# Altium integrated library TI Power Management Step-Up Regulator.IntLib: 226 symbols (part 7 of 11)
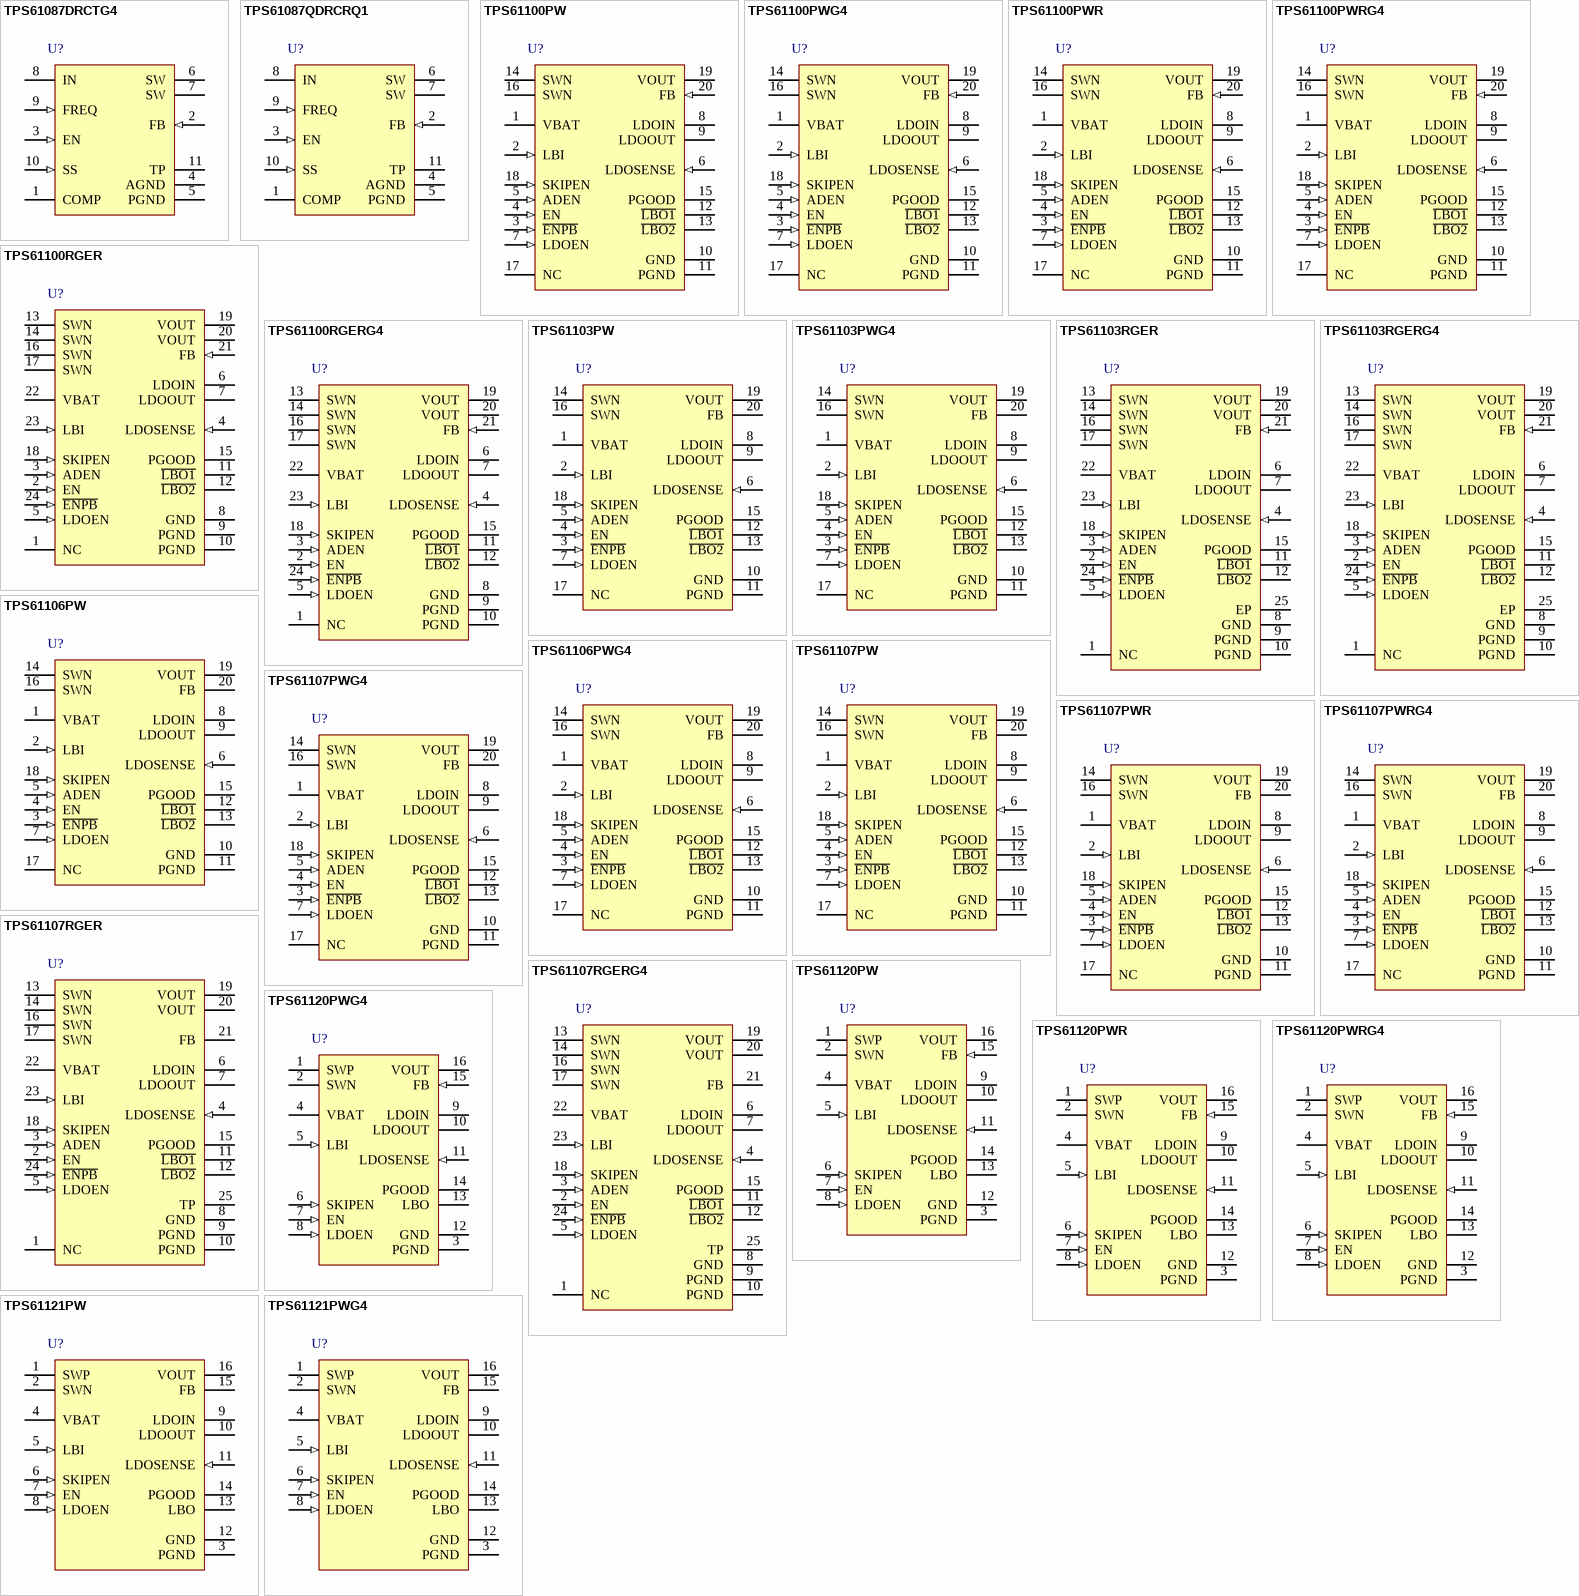
[diagram p12: symbols TPS61087DRCTG4 to TPS61121PWG4]

## TPS61107PW
designator U?
Boost Voltage Converter with 0.8 to 3.3 V Input, -40 to 85 degC, 20-Pin TSSOP (PW), Green (RoHS & no Sb/Br); Manufacturer: Texas Instruments; PartNumber: TPS61107PW; Preset Vout(V): 3.3; Regulated Outputs(#): 2; SubFamily: Step-Up Regulator; Switching Frequency(Max)(kHz): 800; Synchronous Rectification: TRUE; Vin(Min)(V): 0.8; Vout2(Max)(V): 1.8; DatasheetVersion: SLVS411B; PackageVersion: revG, Feb-2011; PackageReference: PW20; PackageDescription: 20-Pin Plastic Thin Small Outline Package 6.5 x 4.4 mm Body ,0.65 mm Pitch; Supplier 1: Digi-Key; Supplier Part Number 1: TPS61107PW-ND; Supplier 2: Newark; Supplier Part Number 2: 02E7224; Supplier 3: Mouser; Supplier Part Number 3: 595-TPS61107PW; Eco-Plan: Green (RoHS & no Sb/Br); Topology: Boost; Vin(Max)(V): 3.3; Vout2(Min)(V): 1.8; Mounting Technology: Surface Mount; Code_JEDEC: MO-153; ComponentLink1Description: Datasheet; ComponentLink1URL: http://www.ti.com/general/docs/lit/getliterature.tsp?genericPartNumber=TPS61107&fileType=pdf; ComponentLink2Description: Package Specification; ComponentLink2URL: http://www.ti.com.cn/cn/lit/ml/mpds362/mpds362.pdf
footprint PW20_N (TSOP, 20-Leads, Body 6.5x4.4mm, Pitch 0.65mm, IPC Medium Density)
footprint PW20_L (TSOP, 20-Leads, Body 6.5x4.4mm, Pitch 0.65mm, IPC High Density)
footprint PW20_M (TSOP, 20-Leads, Body 6.5x4.4mm, Pitch 0.65mm, IPC Low Density)
pins: 1 VBAT (power) "Supply pin", 2 LBI (in) "Low battery comparator input (comparator enabled with EN)", 3 ~{ENPB} (in) "Boost-enable input (pushbutton). (0/GND enabled. 1/VBAT disabled)", 4 EN (in) "Boost-enable input. (1/VBAT enabled, 0/GND disabled)", 5 ADEN (in) "Auto discharge enable (1/VBAT enabled, 0/GND disabled)", 6 LDOSENSE (in) "LDO feedback for voltage adjustment, must be connected to LDOOUT at fixed output voltage versions", 7 LDOEN (in) "LDO-enable input (1/VBAT enabled, 0/GND disabled)", 8 LDOIN (power) "LDO input", 9 LDOOUT (power) "LDO output", 10 GND (power) "Control/logic ground", 11 PGND (power) "Power ground", 12 ~{LBO1} (hiz) "Low battery comparator output 1 (open drain)", 13 ~{LBO2} (hiz) "Low battery comparator output 2 (open drain)", 14 SWN (power) "Boost switch input", 15 PGOOD (hiz) "Boost output power good (1 : good, 0 : failure) (open drain)", 16 SWN (power) "Boost switch input", 17 NC "No connection", 18 SKIPEN (in) "Enable/disable Power save mode (1: VBAT enabled, 0: GND disabled)", 19 VOUT (power) "Boost output", 20 FB "Boost-voltage feedback of adjustable versions"

## TPS61107PWG4
designator U?
Boost Voltage Converter with 0.8 to 3.3 V Input, -40 to 85 degC, 20-Pin TSSOP (PW), Green (RoHS & no Sb/Br); Manufacturer: Texas Instruments; PartNumber: TPS61107PWG4; Preset Vout(V): 3.3; Regulated Outputs(#): 2; SubFamily: Step-Up Regulator; Switching Frequency(Max)(kHz): 800; Synchronous Rectification: TRUE; Vin(Min)(V): 0.8; Vout2(Max)(V): 1.8; DatasheetVersion: SLVS411B; PackageVersion: revG, Feb-2011; PackageReference: PW20; PackageDescription: 20-Pin Plastic Thin Small Outline Package 6.5 x 4.4 mm Body ,0.65 mm Pitch; Supplier 1: Digi-Key; Supplier Part Number 1: TPS61107PWG4-ND; Supplier 2: Newark; Supplier Part Number 2: 28M7820; Supplier 3: Mouser; Supplier Part Number 3: 595-TPS61107PWG4; Eco-Plan: Green (RoHS & no Sb/Br); Topology: Boost; Vin(Max)(V): 3.3; Vout2(Min)(V): 1.8; Mounting Technology: Surface Mount; Code_JEDEC: MO-153; ComponentLink1Description: Datasheet; ComponentLink1URL: http://www.ti.com/general/docs/lit/getliterature.tsp?genericPartNumber=TPS61107&fileType=pdf; ComponentLink2Description: Package Specification; ComponentLink2URL: http://www.ti.com.cn/cn/lit/ml/mpds362/mpds362.pdf
footprint PW20_N (TSOP, 20-Leads, Body 6.5x4.4mm, Pitch 0.65mm, IPC Medium Density)
footprint PW20_L (TSOP, 20-Leads, Body 6.5x4.4mm, Pitch 0.65mm, IPC High Density)
footprint PW20_M (TSOP, 20-Leads, Body 6.5x4.4mm, Pitch 0.65mm, IPC Low Density)
pins: 1 VBAT (power) "Supply pin", 2 LBI (in) "Low battery comparator input (comparator enabled with EN)", 3 ~{ENPB} (in) "Boost-enable input (pushbutton). (0/GND enabled. 1/VBAT disabled)", 4 EN (in) "Boost-enable input. (1/VBAT enabled, 0/GND disabled)", 5 ADEN (in) "Auto discharge enable (1/VBAT enabled, 0/GND disabled)", 6 LDOSENSE (in) "LDO feedback for voltage adjustment, must be connected to LDOOUT at fixed output voltage versions", 7 LDOEN (in) "LDO-enable input (1/VBAT enabled, 0/GND disabled)", 8 LDOIN (power) "LDO input", 9 LDOOUT (power) "LDO output", 10 GND (power) "Control/logic ground", 11 PGND (power) "Power ground", 12 ~{LBO1} (hiz) "Low battery comparator output 1 (open drain)", 13 ~{LBO2} (hiz) "Low battery comparator output 2 (open drain)", 14 SWN (power) "Boost switch input", 15 PGOOD (hiz) "Boost output power good (1 : good, 0 : failure) (open drain)", 16 SWN (power) "Boost switch input", 17 NC "No connection", 18 SKIPEN (in) "Enable/disable Power save mode (1: VBAT enabled, 0: GND disabled)", 19 VOUT (power) "Boost output", 20 FB "Boost-voltage feedback of adjustable versions"

## TPS61107PWR
designator U?
Boost Voltage Converter with 0.8 to 3.3 V Input, -40 to 85 degC, 20-Pin TSSOP (PW), Green (RoHS & no Sb/Br); Manufacturer: Texas Instruments; PartNumber: TPS61107PWR; Preset Vout(V): 3.3; Regulated Outputs(#): 2; SubFamily: Step-Up Regulator; Switching Frequency(Max)(kHz): 800; Synchronous Rectification: TRUE; Vin(Min)(V): 0.8; Vout2(Max)(V): 1.8; DatasheetVersion: SLVS411B; PackageVersion: revG, Feb-2011; PackageReference: PW20; PackageDescription: 20-Pin Plastic Thin Small Outline Package 6.5 x 4.4 mm Body ,0.65 mm Pitch; Supplier 1: Digi-Key; Supplier Part Number 1: 296-13750-2-ND; Supplier 2: Digi-Key; Supplier Part Number 2: 296-13750-1-ND; Supplier 3: Digi-Key; Supplier Part Number 3: 296-13750-6-ND; Supplier 4: Newark; Supplier Part Number 4: 02E7225; Supplier 5: Mouser; Supplier Part Number 5: 595-TPS61107PWR; Eco-Plan: Green (RoHS & no Sb/Br); Topology: Boost; Vin(Max)(V): 3.3; Vout2(Min)(V): 1.8; Mounting Technology: Surface Mount; Code_JEDEC: MO-153; ComponentLink1Description: Datasheet; ComponentLink1URL: http://www.ti.com/general/docs/lit/getliterature.tsp?genericPartNumber=TPS61107&fileType=pdf; ComponentLink2Description: Package Specification; ComponentLink2URL: http://www.ti.com.cn/cn/lit/ml/mpds362/mpds362.pdf
footprint PW20_N (TSOP, 20-Leads, Body 6.5x4.4mm, Pitch 0.65mm, IPC Medium Density)
footprint PW20_L (TSOP, 20-Leads, Body 6.5x4.4mm, Pitch 0.65mm, IPC High Density)
footprint PW20_M (TSOP, 20-Leads, Body 6.5x4.4mm, Pitch 0.65mm, IPC Low Density)
pins: 1 VBAT (power) "Supply pin", 2 LBI (in) "Low battery comparator input (comparator enabled with EN)", 3 ~{ENPB} (in) "Boost-enable input (pushbutton). (0/GND enabled. 1/VBAT disabled)", 4 EN (in) "Boost-enable input. (1/VBAT enabled, 0/GND disabled)", 5 ADEN (in) "Auto discharge enable (1/VBAT enabled, 0/GND disabled)", 6 LDOSENSE (in) "LDO feedback for voltage adjustment, must be connected to LDOOUT at fixed output voltage versions", 7 LDOEN (in) "LDO-enable input (1/VBAT enabled, 0/GND disabled)", 8 LDOIN (power) "LDO input", 9 LDOOUT (power) "LDO output", 10 GND (power) "Control/logic ground", 11 PGND (power) "Power ground", 12 ~{LBO1} (hiz) "Low battery comparator output 1 (open drain)", 13 ~{LBO2} (hiz) "Low battery comparator output 2 (open drain)", 14 SWN (power) "Boost switch input", 15 PGOOD (hiz) "Boost output power good (1 : good, 0 : failure) (open drain)", 16 SWN (power) "Boost switch input", 17 NC "No connection", 18 SKIPEN (in) "Enable/disable Power save mode (1: VBAT enabled, 0: GND disabled)", 19 VOUT (power) "Boost output", 20 FB "Boost-voltage feedback of adjustable versions"

## TPS61107PWRG4
designator U?
Boost Voltage Converter with 0.8 to 3.3 V Input, -40 to 85 degC, 20-Pin TSSOP (PW), Green (RoHS & no Sb/Br); Manufacturer: Texas Instruments; PartNumber: TPS61107PWRG4; Preset Vout(V): 3.3; Regulated Outputs(#): 2; SubFamily: Step-Up Regulator; Switching Frequency(Max)(kHz): 800; Synchronous Rectification: TRUE; Vin(Min)(V): 0.8; Vout2(Max)(V): 1.8; DatasheetVersion: SLVS411B; PackageVersion: revG, Feb-2011; PackageReference: PW20; PackageDescription: 20-Pin Plastic Thin Small Outline Package 6.5 x 4.4 mm Body ,0.65 mm Pitch; Supplier 1: Digi-Key; Supplier Part Number 1: TPS61107PWRG4-ND; Supplier 2: Newark; Supplier Part Number 2: 14M2497; Supplier 3: Mouser; Supplier Part Number 3: 595-TPS61107PWRG4; Eco-Plan: Green (RoHS & no Sb/Br); Topology: Boost; Vin(Max)(V): 3.3; Vout2(Min)(V): 1.8; Mounting Technology: Surface Mount; Code_JEDEC: MO-153; ComponentLink1Description: Datasheet; ComponentLink1URL: http://www.ti.com/general/docs/lit/getliterature.tsp?genericPartNumber=TPS61107&fileType=pdf; ComponentLink2Description: Package Specification; ComponentLink2URL: http://www.ti.com.cn/cn/lit/ml/mpds362/mpds362.pdf
footprint PW20_N (TSOP, 20-Leads, Body 6.5x4.4mm, Pitch 0.65mm, IPC Medium Density)
footprint PW20_L (TSOP, 20-Leads, Body 6.5x4.4mm, Pitch 0.65mm, IPC High Density)
footprint PW20_M (TSOP, 20-Leads, Body 6.5x4.4mm, Pitch 0.65mm, IPC Low Density)
pins: 1 VBAT (power) "Supply pin", 2 LBI (in) "Low battery comparator input (comparator enabled with EN)", 3 ~{ENPB} (in) "Boost-enable input (pushbutton). (0/GND enabled. 1/VBAT disabled)", 4 EN (in) "Boost-enable input. (1/VBAT enabled, 0/GND disabled)", 5 ADEN (in) "Auto discharge enable (1/VBAT enabled, 0/GND disabled)", 6 LDOSENSE (in) "LDO feedback for voltage adjustment, must be connected to LDOOUT at fixed output voltage versions", 7 LDOEN (in) "LDO-enable input (1/VBAT enabled, 0/GND disabled)", 8 LDOIN (power) "LDO input", 9 LDOOUT (power) "LDO output", 10 GND (power) "Control/logic ground", 11 PGND (power) "Power ground", 12 ~{LBO1} (hiz) "Low battery comparator output 1 (open drain)", 13 ~{LBO2} (hiz) "Low battery comparator output 2 (open drain)", 14 SWN (power) "Boost switch input", 15 PGOOD (hiz) "Boost output power good (1 : good, 0 : failure) (open drain)", 16 SWN (power) "Boost switch input", 17 NC "No connection", 18 SKIPEN (in) "Enable/disable Power save mode (1: VBAT enabled, 0: GND disabled)", 19 VOUT (power) "Boost output", 20 FB "Boost-voltage feedback of adjustable versions"

## TPS61107RGER
designator U?
Boost Voltage Converter with 0.8 to 3.3 V Input, -40 to 85 degC, 24-Pin VQFN (RGE), Green (RoHS & no Sb/Br); Manufacturer: Texas Instruments; PartNumber: TPS61107RGER; Preset Vout(V): 3.3; Regulated Outputs(#): 2; SubFamily: Step-Up Regulator; Switching Frequency(Max)(kHz): 800; Synchronous Rectification: TRUE; Vin(Min)(V): 0.8; Vout2(Max)(V): 1.8; DatasheetVersion: SLVS411B; PackageVersion: revG, Jul-2011; PackageReference: RGE24-2450X2450TP; PackageDescription: 24-Pin Plastic Quad Flatpack No-Lead, 4 x 4 mm Body, 0.5 mm Pitch; Supplier 1: Digi-Key; Supplier Part Number 1: 296-15144-2-ND; Supplier 2: Digi-Key; Supplier Part Number 2: 296-15144-1-ND; Supplier 3: Digi-Key; Supplier Part Number 3: 296-15144-6-ND; Supplier 4: Newark; Supplier Part Number 4: 02E7226; Supplier 5: Mouser; Supplier Part Number 5: 595-TPS61107RGER; Eco-Plan: Green (RoHS & no Sb/Br); Topology: Boost; Vin(Max)(V): 3.3; Vout2(Min)(V): 1.8; Mounting Technology: Surface Mount; Code_JEDEC: MO-220; ComponentLink1Description: Datasheet; ComponentLink1URL: http://www.ti.com/general/docs/lit/getliterature.tsp?genericPartNumber=TPS61107&fileType=pdf; ComponentLink2Description: Package Specification; ComponentLink2URL: http://www.ti.com/litv/pdf/mpqf124f
footprint RGE24-2450X2450TP (QFN, 24-Leads, Body 4x4mm, Pitch 0.5mm, Thermal Pad 2.45x2.45mm, TI Recommended)
pins: 1 NC "No connection", 2 EN (in) "Boost-enable input. (1/VBAT enabled, 0/GND disabled)", 3 ADEN (in) "Auto discharge enable (1/VBAT enabled, 0/GND disabled)", 4 LDOSENSE (in) "LDO feedback for voltage adjustment, must be connected to LDOOUT at fixed output voltage versions", 5 LDOEN (in) "LDO-enable input (1/VBAT enabled, 0/GND disabled)", 6 LDOIN (power) "LDO input", 7 LDOOUT (power) "LDO output", 8 GND (power) "Control/logic ground", 9 PGND (power) "Power ground", 10 PGND (power) "Power ground", 11 ~{LBO1} (hiz) "Low battery comparator output 1 (open drain)", 12 ~{LBO2} (hiz) "Low battery comparator output 2 (open drain)", 13 SWN (power) "Boost switch input", 14 SWN (power) "Boost switch input", 15 PGOOD (hiz) "Boost output power good (1 : good, 0 : failure) (open drain)", 16 SWN (power) "Boost switch input", 17 SWN (power) "Boost switch input", 18 SKIPEN (in) "Enable/disable Power save mode (1: VBAT enabled, 0: GND disabled)", 19 VOUT (power) "Boost output", 20 VOUT (power) "Boost output", 21 FB "Boost-voltage feedback of adjustable versions", 22 VBAT (power) "Supply pin", 23 LBI (in) "Low battery comparator input (comparator enabled with EN)", 24 ~{ENPB} (in) "Boost-enable input (pushbutton). (0/GND enabled. 1/VBAT disabled)", 25 TP "Exposed Thermal Pad"

## TPS61107RGERG4
designator U?
Boost Voltage Converter with 0.8 to 3.3 V Input, -40 to 85 degC, 24-Pin VQFN (RGE), Green (RoHS & no Sb/Br); Manufacturer: Texas Instruments; PartNumber: TPS61107RGERG4; Preset Vout(V): 3.3; Regulated Outputs(#): 2; SubFamily: Step-Up Regulator; Switching Frequency(Max)(kHz): 800; Synchronous Rectification: TRUE; Vin(Min)(V): 0.8; Vout2(Max)(V): 1.8; DatasheetVersion: SLVS411B; PackageVersion: revG, Jul-2011; PackageReference: RGE24-2450X2450TP; PackageDescription: 24-Pin Plastic Quad Flatpack No-Lead, 4 x 4 mm Body, 0.5 mm Pitch; Supplier 1: Digi-Key; Supplier Part Number 1: TPS61107RGERG4-ND; Supplier 2: Newark; Supplier Part Number 2: 54K1722; Supplier 3: Mouser; Supplier Part Number 3: 595-TPS61107RGERG4; Eco-Plan: Green (RoHS & no Sb/Br); Topology: Boost; Vin(Max)(V): 3.3; Vout2(Min)(V): 1.8; Mounting Technology: Surface Mount; Code_JEDEC: MO-220; ComponentLink1Description: Datasheet; ComponentLink1URL: http://www.ti.com/general/docs/lit/getliterature.tsp?genericPartNumber=TPS61107&fileType=pdf; ComponentLink2Description: Package Specification; ComponentLink2URL: http://www.ti.com/litv/pdf/mpqf124f
footprint RGE24-2450X2450TP (QFN, 24-Leads, Body 4x4mm, Pitch 0.5mm, Thermal Pad 2.45x2.45mm, TI Recommended)
pins: 1 NC "No connection", 2 EN (in) "Boost-enable input. (1/VBAT enabled, 0/GND disabled)", 3 ADEN (in) "Auto discharge enable (1/VBAT enabled, 0/GND disabled)", 4 LDOSENSE (in) "LDO feedback for voltage adjustment, must be connected to LDOOUT at fixed output voltage versions", 5 LDOEN (in) "LDO-enable input (1/VBAT enabled, 0/GND disabled)", 6 LDOIN (power) "LDO input", 7 LDOOUT (power) "LDO output", 8 GND (power) "Control/logic ground", 9 PGND (power) "Power ground", 10 PGND (power) "Power ground", 11 ~{LBO1} (hiz) "Low battery comparator output 1 (open drain)", 12 ~{LBO2} (hiz) "Low battery comparator output 2 (open drain)", 13 SWN (power) "Boost switch input", 14 SWN (power) "Boost switch input", 15 PGOOD (hiz) "Boost output power good (1 : good, 0 : failure) (open drain)", 16 SWN (power) "Boost switch input", 17 SWN (power) "Boost switch input", 18 SKIPEN (in) "Enable/disable Power save mode (1: VBAT enabled, 0: GND disabled)", 19 VOUT (power) "Boost output", 20 VOUT (power) "Boost output", 21 FB "Boost-voltage feedback of adjustable versions", 22 VBAT (power) "Supply pin", 23 LBI (in) "Low battery comparator input (comparator enabled with EN)", 24 ~{ENPB} (in) "Boost-enable input (pushbutton). (0/GND enabled. 1/VBAT disabled)", 25 TP "Exposed Thermal Pad"

## TPS61120PW
designator U?
Boost Voltage Converter with 1.8 to 5.5 V Input and 2.5 to 5.5 V Output, -40 to 85 degC, 16-Pin TSSOP (PW), Green (RoHS & no Sb/Br); Manufacturer: Texas Instruments; PartNumber: TPS61120PW; Regulated Outputs(#): 2; SubFamily: Step-Up Regulator; Switching Frequency(Max)(kHz): 600; Synchronous Rectification: TRUE; Vin(Max)(V): 5.5; Vin(Min)(V): 1.8; Vout(Min)(V): 2.5; Vout2 Adj(Min)(V): 0.9; DatasheetVersion: SLVS427C; PackageVersion: revG, Feb-2011; PackageReference: PW16; PackageDescription: 16-Pin Plastic Thin Small Outline Package 5 x 4.4 mm Body ,0.65 mm Pitch; Supplier 1: Digi-Key; Supplier Part Number 1: 296-13518-5-ND; Supplier 2: Newark; Supplier Part Number 2: 77C0681; Supplier 3: Mouser; Supplier Part Number 3: 595-TPS61120PW; Eco-Plan: Green (RoHS & no Sb/Br); Topology: Boost; Vout(Max)(V): 5.5; Vout2 Adj(Max)(V): 5.5; Mounting Technology: Surface Mount; Code_JEDEC: MO-153; ComponentLink1Description: Datasheet; ComponentLink1URL: http://www.ti.com/general/docs/lit/getliterature.tsp?genericPartNumber=TPS61120&fileType=pdf; ComponentLink2Description: Package Specification; ComponentLink2URL: http://www.ti.com/litv/pdf/mpds361
footprint PW16_N (TSOP, 16-Leads, Body 5x4.4mm, Pitch 0.65mm, IPC Medium Density)
footprint PW16_L (TSOP, 16-Leads, Body 5x4.4mm, Pitch 0.65mm, IPC High Density)
footprint PW16_M (TSOP, 16-Leads, Body 5x4.4mm, Pitch 0.65mm, IPC Low Density)
pins: 1 SWP (power) "DC/DC rectifying switch input", 2 SWN (power) "DC/DC switch input", 3 PGND (power) "Power ground", 4 VBAT (power) "Supply pin", 5 LBI (in) "Low battery comparator input (comparator enabled with EN)", 6 SKIPEN (in) "Enable/disable power save mode (1: VBAT enabled, 0: GND disabled)", 7 EN (in) "DC/DC-enable input. (1/VBAT enabled, 0/GND disabled)", 8 LDOEN (in) "LDO-enable input (1/LDOIN enabled, 0/GND disabled)", 9 LDOIN (power) "LDO input", 10 LDOOUT (power) "LDO output", 11 LDOSENSE (in) "LDO feedback for voltage adjustment, must be connected to LDOOUT at fixed output voltage versions", 12 GND (power) "Control/logic ground", 13 LBO (hiz) "Low battery comparator output (open drain)", 14 PGOOD (hiz) "DC/DC output power good (1 : good, 0 : failure) (open drain)", 15 FB (in) "DC/DC voltage feedback of adjustable versions", 16 VOUT (power) "DC/DC output"

## TPS61120PWG4
designator U?
Boost Adjustable Converter with 1.8 to 5.5 V Input and 2.5 to 5.5 V Output, -40 to 85 degC, 16-Pin TSSOP (PW), Green (RoHS & no Sb/Br); Manufacturer: Texas Instruments; PartNumber: TPS61120PWG4; Regulated Outputs(#): 2; SubFamily: Step-Up Regulator; Switching Frequency(Max)(kHz): 600; Synchronous Rectification: TRUE; Vin(Max)(V): 5.5; Vin(Min)(V): 1.8; Vout(Min)(V): 2.5; Vout2 Adj(Min)(V): 0.9; DatasheetVersion: SLVS427C; PackageVersion: revG, Feb-2011; PackageReference: PW16; PackageDescription: 16-Pin Plastic Thin Small Outline Package 5 x 4.4 mm Body ,0.65 mm Pitch; Supplier 1: Digi-Key; Supplier Part Number 1: TPS61120PWG4-ND; Supplier 2: Newark; Supplier Part Number 2: 73K9609; Supplier 3: Mouser; Supplier Part Number 3: 595-TPS61120PWG4; Eco-Plan: Green (RoHS & no Sb/Br); Topology: Boost; Vout(Max)(V): 5.5; Vout2 Adj(Max)(V): 5.5; Mounting Technology: Surface Mount; Code_JEDEC: MO-153; ComponentLink1Description: Datasheet; ComponentLink1URL: http://www.ti.com/general/docs/lit/getliterature.tsp?genericPartNumber=TPS61120&fileType=pdf; ComponentLink2Description: Package Specification; ComponentLink2URL: http://www.ti.com/litv/pdf/mpds361
footprint PW16_N (TSOP, 16-Leads, Body 5x4.4mm, Pitch 0.65mm, IPC Medium Density)
footprint PW16_L (TSOP, 16-Leads, Body 5x4.4mm, Pitch 0.65mm, IPC High Density)
footprint PW16_M (TSOP, 16-Leads, Body 5x4.4mm, Pitch 0.65mm, IPC Low Density)
pins: 1 SWP (power) "DC/DC rectifying switch input", 2 SWN (power) "DC/DC switch input", 3 PGND (power) "Power ground", 4 VBAT (power) "Supply pin", 5 LBI (in) "Low battery comparator input (comparator enabled with EN)", 6 SKIPEN (in) "Enable/disable power save mode (1: VBAT enabled, 0: GND disabled)", 7 EN (in) "DC/DC-enable input. (1/VBAT enabled, 0/GND disabled)", 8 LDOEN (in) "LDO-enable input (1/LDOIN enabled, 0/GND disabled)", 9 LDOIN (power) "LDO input", 10 LDOOUT (power) "LDO output", 11 LDOSENSE (in) "LDO feedback for voltage adjustment, must be connected to LDOOUT at fixed output voltage versions", 12 GND (power) "Control/logic ground", 13 LBO (hiz) "Low battery comparator output (open drain)", 14 PGOOD (hiz) "DC/DC output power good (1 : good, 0 : failure) (open drain)", 15 FB (in) "DC/DC voltage feedback of adjustable versions", 16 VOUT (power) "DC/DC output"

## TPS61120PWR
designator U?
Boost Adjustable Converter with 1.8 to 5.5 V Input and 2.5 to 5.5 V Output, -40 to 85 degC, 16-Pin TSSOP (PW), Green (RoHS & no Sb/Br); Manufacturer: Texas Instruments; PartNumber: TPS61120PWR; Regulated Outputs(#): 2; SubFamily: Step-Up Regulator; Switching Frequency(Max)(kHz): 600; Synchronous Rectification: TRUE; Vin(Max)(V): 5.5; Vin(Min)(V): 1.8; Vout(Min)(V): 2.5; Vout2 Adj(Min)(V): 0.9; DatasheetVersion: SLVS427C; PackageVersion: revG, Feb-2011; PackageReference: PW16; PackageDescription: 16-Pin Plastic Thin Small Outline Package 5 x 4.4 mm Body ,0.65 mm Pitch; Supplier 1: Digi-Key; Supplier Part Number 1: TPS61120PWR-ND; Supplier 2: Newark; Supplier Part Number 2: 77C0682; Supplier 3: Mouser; Supplier Part Number 3: 595-TPS61120PWR; Eco-Plan: Green (RoHS & no Sb/Br); Topology: Boost; Vout(Max)(V): 5.5; Vout2 Adj(Max)(V): 5.5; Mounting Technology: Surface Mount; Code_JEDEC: MO-153; ComponentLink1Description: Datasheet; ComponentLink1URL: http://www.ti.com/general/docs/lit/getliterature.tsp?genericPartNumber=TPS61120&fileType=pdf; ComponentLink2Description: Package Specification; ComponentLink2URL: http://www.ti.com/litv/pdf/mpds361
footprint PW16_N (TSOP, 16-Leads, Body 5x4.4mm, Pitch 0.65mm, IPC Medium Density)
footprint PW16_L (TSOP, 16-Leads, Body 5x4.4mm, Pitch 0.65mm, IPC High Density)
footprint PW16_M (TSOP, 16-Leads, Body 5x4.4mm, Pitch 0.65mm, IPC Low Density)
pins: 1 SWP (power) "DC/DC rectifying switch input", 2 SWN (power) "DC/DC switch input", 3 PGND (power) "Power ground", 4 VBAT (power) "Supply pin", 5 LBI (in) "Low battery comparator input (comparator enabled with EN)", 6 SKIPEN (in) "Enable/disable power save mode (1: VBAT enabled, 0: GND disabled)", 7 EN (in) "DC/DC-enable input. (1/VBAT enabled, 0/GND disabled)", 8 LDOEN (in) "LDO-enable input (1/LDOIN enabled, 0/GND disabled)", 9 LDOIN (power) "LDO input", 10 LDOOUT (power) "LDO output", 11 LDOSENSE (in) "LDO feedback for voltage adjustment, must be connected to LDOOUT at fixed output voltage versions", 12 GND (power) "Control/logic ground", 13 LBO (hiz) "Low battery comparator output (open drain)", 14 PGOOD (hiz) "DC/DC output power good (1 : good, 0 : failure) (open drain)", 15 FB (in) "DC/DC voltage feedback of adjustable versions", 16 VOUT (power) "DC/DC output"

## TPS61120PWRG4
designator U?
Boost Adjustable Converter with 1.8 to 5.5 V Input and 2.5 to 5.5 V Output, -40 to 85 degC, 16-Pin TSSOP (PW), Green (RoHS & no Sb/Br); Manufacturer: Texas Instruments; PartNumber: TPS61120PWRG4; Regulated Outputs(#): 2; SubFamily: Step-Up Regulator; Switching Frequency(Max)(kHz): 600; Synchronous Rectification: TRUE; Vin(Max)(V): 5.5; Vin(Min)(V): 1.8; Vout(Min)(V): 2.5; Vout2 Adj(Min)(V): 0.9; DatasheetVersion: SLVS427C; PackageVersion: revG, Feb-2011; PackageReference: PW16; PackageDescription: 16-Pin Plastic Thin Small Outline Package 5 x 4.4 mm Body ,0.65 mm Pitch; Supplier 1: Digi-Key; Supplier Part Number 1: TPS61120PWRG4-ND; Supplier 2: Newark; Supplier Part Number 2: 24K6027; Supplier 3: Mouser; Supplier Part Number 3: 595-TPS61120PWRG4; Eco-Plan: Green (RoHS & no Sb/Br); Topology: Boost; Vout(Max)(V): 5.5; Vout2 Adj(Max)(V): 5.5; Mounting Technology: Surface Mount; Code_JEDEC: MO-153; ComponentLink1Description: Datasheet; ComponentLink1URL: http://www.ti.com/general/docs/lit/getliterature.tsp?genericPartNumber=TPS61120&fileType=pdf; ComponentLink2Description: Package Specification; ComponentLink2URL: http://www.ti.com/litv/pdf/mpds361
footprint PW16_N (TSOP, 16-Leads, Body 5x4.4mm, Pitch 0.65mm, IPC Medium Density)
footprint PW16_L (TSOP, 16-Leads, Body 5x4.4mm, Pitch 0.65mm, IPC High Density)
footprint PW16_M (TSOP, 16-Leads, Body 5x4.4mm, Pitch 0.65mm, IPC Low Density)
pins: 1 SWP (power) "DC/DC rectifying switch input", 2 SWN (power) "DC/DC switch input", 3 PGND (power) "Power ground", 4 VBAT (power) "Supply pin", 5 LBI (in) "Low battery comparator input (comparator enabled with EN)", 6 SKIPEN (in) "Enable/disable power save mode (1: VBAT enabled, 0: GND disabled)", 7 EN (in) "DC/DC-enable input. (1/VBAT enabled, 0/GND disabled)", 8 LDOEN (in) "LDO-enable input (1/LDOIN enabled, 0/GND disabled)", 9 LDOIN (power) "LDO input", 10 LDOOUT (power) "LDO output", 11 LDOSENSE (in) "LDO feedback for voltage adjustment, must be connected to LDOOUT at fixed output voltage versions", 12 GND (power) "Control/logic ground", 13 LBO (hiz) "Low battery comparator output (open drain)", 14 PGOOD (hiz) "DC/DC output power good (1 : good, 0 : failure) (open drain)", 15 FB (in) "DC/DC voltage feedback of adjustable versions", 16 VOUT (power) "DC/DC output"

## TPS61121PW
designator U?
Boost Voltage Converter with 1.8 to 5.5 V Input and 3.3 V Output, -40 to 85 degC, 16-Pin TSSOP (PW), Green (RoHS & no Sb/Br); Manufacturer: Texas Instruments; PartNumber: TPS61121PW; Preset Vout(V): 3.3; Regulated Outputs(#): 2; SubFamily: Step-Up Regulator; Switching Frequency(Max)(kHz): 600; Synchronous Rectification: TRUE; Vin(Max)(V): 5.5; Vin(Min)(V): 1.8; Vout2(Max)(V): 1.5; DatasheetVersion: SLVS427C; PackageVersion: revG, Feb-2011; PackageReference: PW16; PackageDescription: 16-Pin Plastic Thin Small Outline Package 5 x 4.4 mm Body ,0.65 mm Pitch; Supplier 1: Digi-Key; Supplier Part Number 1: 296-13519-5-ND; Supplier 2: Newark; Supplier Part Number 2: 77C0683; Supplier 3: Mouser; Supplier Part Number 3: 595-TPS61121PW; Eco-Plan: Green (RoHS & no Sb/Br); Topology: Boost; Vout(Max)(V): 3.3; Vout(Min)(V): 3.3; Vout2(Min)(V): 1.5; Mounting Technology: Surface Mount; Code_JEDEC: MO-153; ComponentLink1Description: Datasheet; ComponentLink1URL: http://www.ti.com/general/docs/lit/getliterature.tsp?genericPartNumber=TPS61121&fileType=pdf; ComponentLink2Description: Package Specification; ComponentLink2URL: http://www.ti.com/litv/pdf/mpds361
footprint PW16_N (TSOP, 16-Leads, Body 5x4.4mm, Pitch 0.65mm, IPC Medium Density)
footprint PW16_L (TSOP, 16-Leads, Body 5x4.4mm, Pitch 0.65mm, IPC High Density)
footprint PW16_M (TSOP, 16-Leads, Body 5x4.4mm, Pitch 0.65mm, IPC Low Density)
pins: 1 SWP (power) "DC/DC rectifying switch input", 2 SWN (power) "DC/DC switch input", 3 PGND (power) "Power ground", 4 VBAT (power) "Supply pin", 5 LBI (in) "Low battery comparator input (comparator enabled with EN)", 6 SKIPEN (in) "Enable/disable power save mode (1: VBAT enabled, 0: GND disabled)", 7 EN (in) "DC/DC-enable input. (1/VBAT enabled, 0/GND disabled)", 8 LDOEN (in) "LDO-enable input (1/LDOIN enabled, 0/GND disabled)", 9 LDOIN (power) "LDO input", 10 LDOOUT (power) "LDO output", 11 LDOSENSE (in) "LDO feedback for voltage adjustment, must be connected to LDOOUT at fixed output voltage versions", 12 GND (power) "Control/logic ground", 13 LBO (hiz) "Low battery comparator output (open drain)", 14 PGOOD (hiz) "DC/DC output power good (1 : good, 0 : failure) (open drain)", 15 FB "DC/DC voltage feedback of adjustable versions", 16 VOUT (power) "DC/DC output"

## TPS61121PWG4
designator U?
Boost Voltage Converter with 1.8 to 5.5 V Input and 3.3 V Output, -40 to 85 degC, 16-Pin TSSOP (PW), Green (RoHS & no Sb/Br); Manufacturer: Texas Instruments; PartNumber: TPS61121PWG4; Preset Vout(V): 3.3; Regulated Outputs(#): 2; SubFamily: Step-Up Regulator; Switching Frequency(Max)(kHz): 600; Synchronous Rectification: TRUE; Vin(Max)(V): 5.5; Vin(Min)(V): 1.8; Vout2(Max)(V): 1.5; DatasheetVersion: SLVS427C; PackageVersion: revG, Feb-2011; PackageReference: PW16; PackageDescription: 16-Pin Plastic Thin Small Outline Package 5 x 4.4 mm Body ,0.65 mm Pitch; Supplier 1: Digi-Key; Supplier Part Number 1: TPS61121PWG4-ND; Supplier 2: Newark; Supplier Part Number 2: 04M0261; Supplier 3: Mouser; Supplier Part Number 3: 595-TPS61121PWG4; Eco-Plan: Green (RoHS & no Sb/Br); Topology: Boost; Vout(Max)(V): 3.3; Vout(Min)(V): 3.3; Vout2(Min)(V): 1.5; Mounting Technology: Surface Mount; Code_JEDEC: MO-153; ComponentLink1Description: Datasheet; ComponentLink1URL: http://www.ti.com/general/docs/lit/getliterature.tsp?genericPartNumber=TPS61121&fileType=pdf; ComponentLink2Description: Package Specification; ComponentLink2URL: http://www.ti.com/litv/pdf/mpds361
footprint PW16_N (TSOP, 16-Leads, Body 5x4.4mm, Pitch 0.65mm, IPC Medium Density)
footprint PW16_L (TSOP, 16-Leads, Body 5x4.4mm, Pitch 0.65mm, IPC High Density)
footprint PW16_M (TSOP, 16-Leads, Body 5x4.4mm, Pitch 0.65mm, IPC Low Density)
pins: 1 SWP (power) "DC/DC rectifying switch input", 2 SWN (power) "DC/DC switch input", 3 PGND (power) "Power ground", 4 VBAT (power) "Supply pin", 5 LBI (in) "Low battery comparator input (comparator enabled with EN)", 6 SKIPEN (in) "Enable/disable power save mode (1: VBAT enabled, 0: GND disabled)", 7 EN (in) "DC/DC-enable input. (1/VBAT enabled, 0/GND disabled)", 8 LDOEN (in) "LDO-enable input (1/LDOIN enabled, 0/GND disabled)", 9 LDOIN (power) "LDO input", 10 LDOOUT (power) "LDO output", 11 LDOSENSE (in) "LDO feedback for voltage adjustment, must be connected to LDOOUT at fixed output voltage versions", 12 GND (power) "Control/logic ground", 13 LBO (hiz) "Low battery comparator output (open drain)", 14 PGOOD (hiz) "DC/DC output power good (1 : good, 0 : failure) (open drain)", 15 FB "DC/DC voltage feedback of adjustable versions", 16 VOUT (power) "DC/DC output"

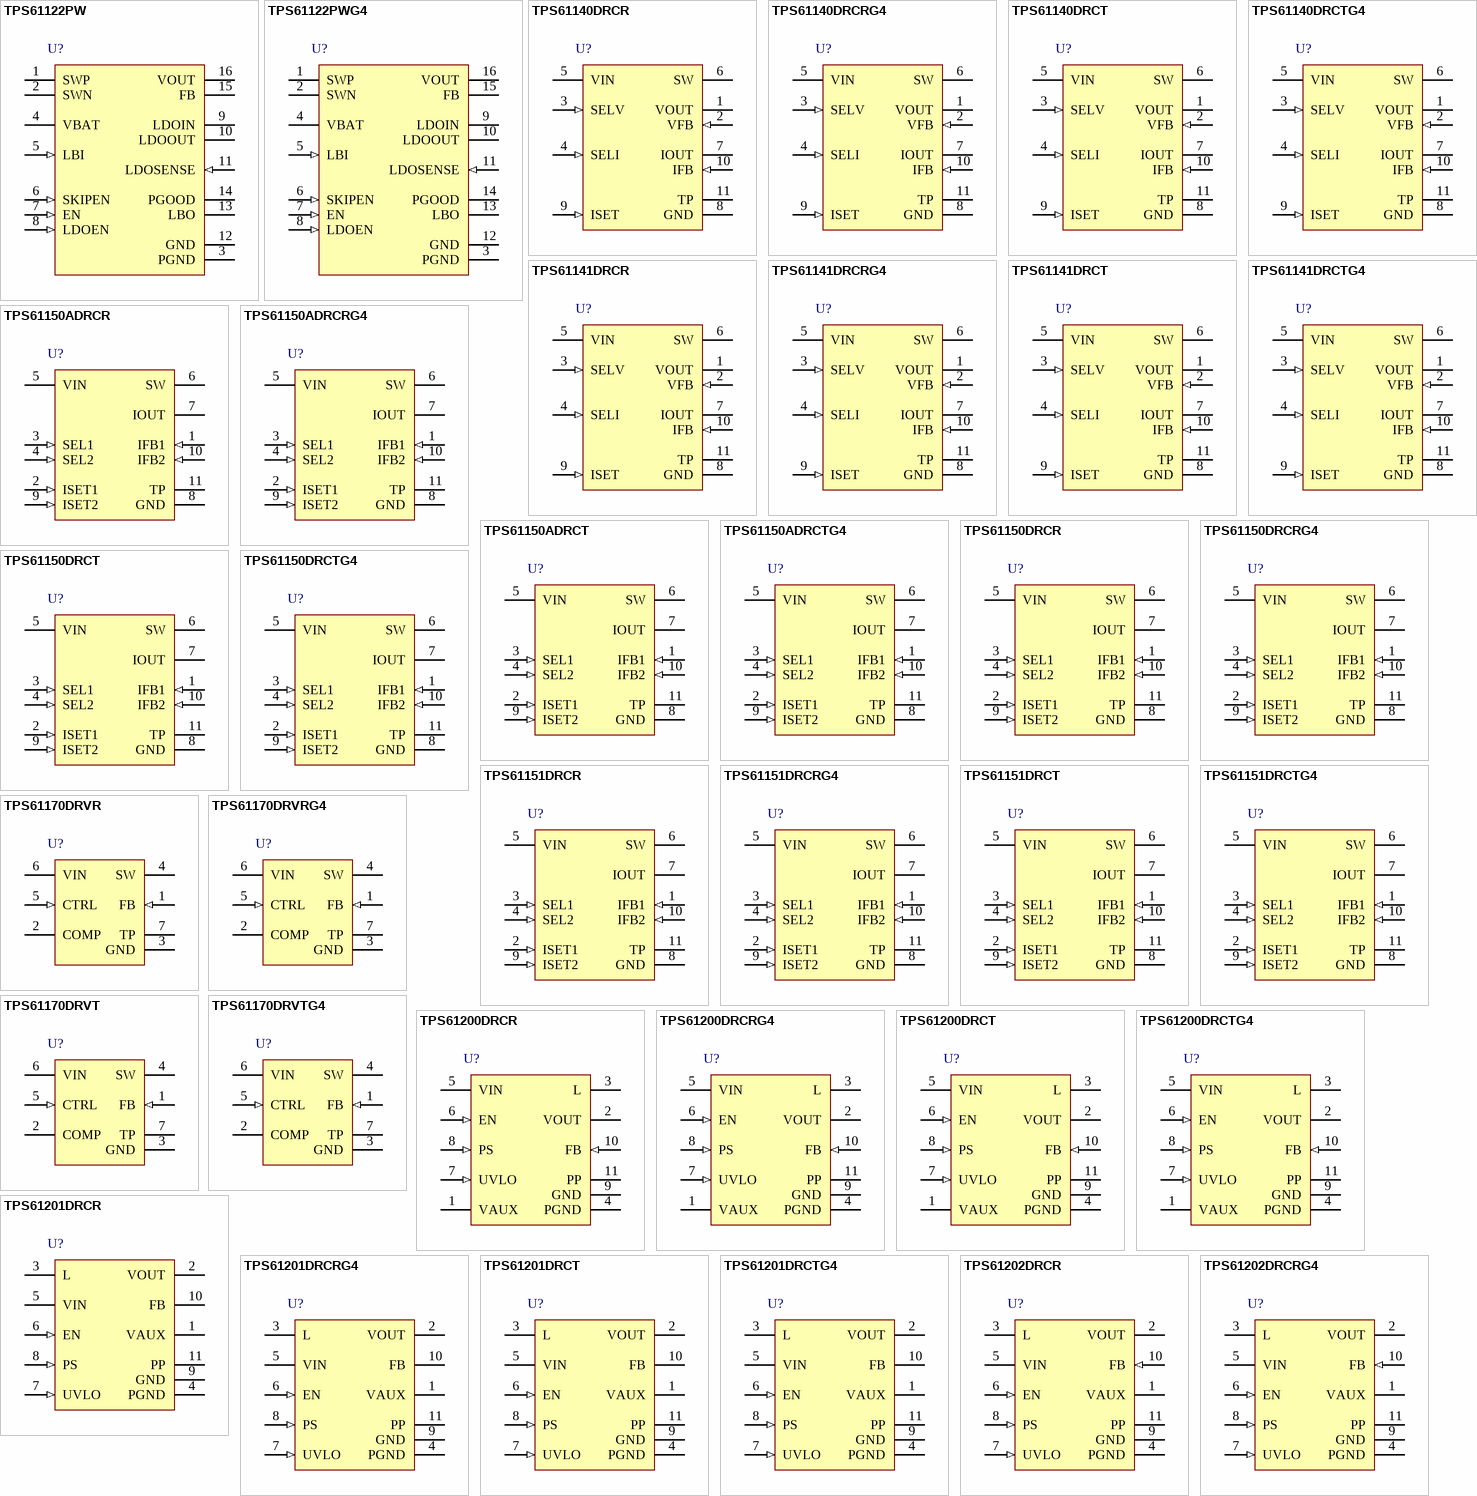
[diagram p4: symbols TPS61122PW to TPS61202DRCRG4]

## TPS61122PW
designator U?
Boost Voltage Converter with 1.8 to 5.5 V Input and 3.6 V Output, -40 to 85 degC, 16-Pin TSSOP (PW), Green (RoHS & no Sb/Br); Manufacturer: Texas Instruments; PartNumber: TPS61122PW; Preset Vout(V): 3.6; Regulated Outputs(#): 2; SubFamily: Step-Up Regulator; Switching Frequency(Max)(kHz): 600; Synchronous Rectification: TRUE; Vin(Max)(V): 5.5; Vin(Min)(V): 1.8; Vout2(Max)(V): 3.3; DatasheetVersion: SLVS427C; PackageVersion: revG, Feb-2011; PackageReference: PW16; PackageDescription: 16-Pin Plastic Thin Small Outline Package 5 x 4.4 mm Body ,0.65 mm Pitch; Supplier 1: Digi-Key; Supplier Part Number 1: 296-13520-5-ND; Supplier 2: Newark; Supplier Part Number 2: 77C0685; Supplier 3: Mouser; Supplier Part Number 3: 595-TPS61122PW; Eco-Plan: Green (RoHS & no Sb/Br); Topology: Boost; Vout(Max)(V): 3.6; Vout(Min)(V): 3.6; Vout2(Min)(V): 3.3; Mounting Technology: Surface Mount; Code_JEDEC: MO-153; ComponentLink1Description: Datasheet; ComponentLink1URL: http://www.ti.com/general/docs/lit/getliterature.tsp?genericPartNumber=TPS61122&fileType=pdf; ComponentLink2Description: Package Specification; ComponentLink2URL: http://www.ti.com/litv/pdf/mpds361
footprint PW16_N (TSOP, 16-Leads, Body 5x4.4mm, Pitch 0.65mm, IPC Medium Density)
footprint PW16_L (TSOP, 16-Leads, Body 5x4.4mm, Pitch 0.65mm, IPC High Density)
footprint PW16_M (TSOP, 16-Leads, Body 5x4.4mm, Pitch 0.65mm, IPC Low Density)
pins: 1 SWP (power) "DC/DC rectifying switch input", 2 SWN (power) "DC/DC switch input", 3 PGND (power) "Power ground", 4 VBAT (power) "Supply pin", 5 LBI (in) "Low battery comparator input (comparator enabled with EN)", 6 SKIPEN (in) "Enable/disable power save mode (1: VBAT enabled, 0: GND disabled)", 7 EN (in) "DC/DC-enable input. (1/VBAT enabled, 0/GND disabled)", 8 LDOEN (in) "LDO-enable input (1/LDOIN enabled, 0/GND disabled)", 9 LDOIN (power) "LDO input", 10 LDOOUT (power) "LDO output", 11 LDOSENSE (in) "LDO feedback for voltage adjustment, must be connected to LDOOUT at fixed output voltage versions", 12 GND (power) "Control/logic ground", 13 LBO (hiz) "Low battery comparator output (open drain)", 14 PGOOD (hiz) "DC/DC output power good (1 : good, 0 : failure) (open drain)", 15 FB "DC/DC voltage feedback of adjustable versions", 16 VOUT (power) "DC/DC output"

## TPS61122PWG4
designator U?
Boost Voltage Converter with 1.8 to 5.5 V Input and 3.6 V Output, -40 to 85 degC, 16-Pin TSSOP (PW), Green (RoHS & no Sb/Br); Manufacturer: Texas Instruments; PartNumber: TPS61122PWG4; Preset Vout(V): 3.6; Regulated Outputs(#): 2; SubFamily: Step-Up Regulator; Switching Frequency(Max)(kHz): 600; Synchronous Rectification: TRUE; Vin(Max)(V): 5.5; Vin(Min)(V): 1.8; Vout2(Max)(V): 3.3; DatasheetVersion: SLVS427C; PackageVersion: revG, Feb-2011; PackageReference: PW16; PackageDescription: 16-Pin Plastic Thin Small Outline Package 5 x 4.4 mm Body ,0.65 mm Pitch; Supplier 1: Digi-Key; Supplier Part Number 1: TPS61122PWG4-ND; Supplier 2: Newark; Supplier Part Number 2: 20M5892; Supplier 3: Mouser; Supplier Part Number 3: 595-TPS61122PWG4; Eco-Plan: Green (RoHS & no Sb/Br); Topology: Boost; Vout(Max)(V): 3.6; Vout(Min)(V): 3.6; Vout2(Min)(V): 3.3; Mounting Technology: Surface Mount; Code_JEDEC: MO-153; ComponentLink1Description: Datasheet; ComponentLink1URL: http://www.ti.com/general/docs/lit/getliterature.tsp?genericPartNumber=TPS61122&fileType=pdf; ComponentLink2Description: Package Specification; ComponentLink2URL: http://www.ti.com/litv/pdf/mpds361
footprint PW16_N (TSOP, 16-Leads, Body 5x4.4mm, Pitch 0.65mm, IPC Medium Density)
footprint PW16_L (TSOP, 16-Leads, Body 5x4.4mm, Pitch 0.65mm, IPC High Density)
footprint PW16_M (TSOP, 16-Leads, Body 5x4.4mm, Pitch 0.65mm, IPC Low Density)
pins: 1 SWP (power) "DC/DC rectifying switch input", 2 SWN (power) "DC/DC switch input", 3 PGND (power) "Power ground", 4 VBAT (power) "Supply pin", 5 LBI (in) "Low battery comparator input (comparator enabled with EN)", 6 SKIPEN (in) "Enable/disable power save mode (1: VBAT enabled, 0: GND disabled)", 7 EN (in) "DC/DC-enable input. (1/VBAT enabled, 0/GND disabled)", 8 LDOEN (in) "LDO-enable input (1/LDOIN enabled, 0/GND disabled)", 9 LDOIN (power) "LDO input", 10 LDOOUT (power) "LDO output", 11 LDOSENSE (in) "LDO feedback for voltage adjustment, must be connected to LDOOUT at fixed output voltage versions", 12 GND (power) "Control/logic ground", 13 LBO (hiz) "Low battery comparator output (open drain)", 14 PGOOD (hiz) "DC/DC output power good (1 : good, 0 : failure) (open drain)", 15 FB "DC/DC voltage feedback of adjustable versions", 16 VOUT (power) "DC/DC output"

## TPS61140DRCR
designator U?
Boost Voltage Converter with 3 to 6 V Input and 2.5 to 27 V Output, -40 to 85 degC, 10-Pin SON (DRC), Green (RoHS & no Sb/Br); Manufacturer: Texas Instruments; PartNumber: TPS61140DRCR; Regulated Outputs(#): 2; SubFamily: Step-Up Regulator; Switching Frequency(Max)(kHz): 1200; Synchronous Rectification: TRUE; Vin(Max)(V): 6; Vin(Min)(V): 3; Vout(Max)(V): 27; Vout(Min)(V): 2.5; DatasheetVersion: SLVS624B; PackageVersion: revL, Sep-2011; PackageReference: DRC10-2400X1650TP; PackageDescription: 10-Pin Plastic Small Outline No-Lead, 3 x 3 x 1 mm Body, 0.5 mm Pitch, Exposed Pad; Supplier 1: Digi-Key; Supplier Part Number 1: 296-21159-2-ND; Supplier 2: Digi-Key; Supplier Part Number 2: 296-21159-1-ND; Supplier 3: Digi-Key; Supplier Part Number 3: 296-21159-6-ND; Supplier 4: Newark; Supplier Part Number 4: 80K6167; Supplier 5: Mouser; Supplier Part Number 5: 595-TPS61140DRCR; Eco-Plan: Green (RoHS & no Sb/Br); Topology: Boost; Mounting Technology: Surface Mount; ComponentLink1Description: Datasheet; ComponentLink1URL: http://www.ti.com/general/docs/lit/getliterature.tsp?genericPartNumber=TPS61140&fileType=pdf; ComponentLink2Description: Package Specification; ComponentLink2URL: http://www.ti.com/litv/pdf/mpds117k
footprint DRC10-2400X1650TP (SON, 10-Leads, Body 3x3mm, Pitch 0.5mm, Thermal Pad 2.4x1.65mm, TI Recommended)
pins: 1 VOUT (power) "The output of the voltage regulator. There is a low dropout linear regulator (LDO) between the Iout and Vout pins which regulates the Vout voltage. Turning off the LDO disconnects the Vout from Iout.", 2 VFB (in) "The voltage feedback pin for Vout regulation. It is regulated to an internal reference voltage. An external voltage divider connected to this pin programs the output voltage.", 3 SELV (in) "Mode selection pins. See Table 1 for details", 4 SELI (in) "Mode selection pins. See Table 1 for details", 5 VIN (power) "The input pin to the IC. It provides the current to the boost regulator output, and also powers the IC circuit. When the Vin voltage is below the undervoltage lockout threshold, the IC turns off and disables outputs.", 6 SW (power) "This is the switching node of the IC where the PWM switching Is created.", 7 IOUT (power) "The output of the constant current supply. It is directly connected to the boost regulator output", 8 GND (power) "The ground of the IC. Connect the input and output capacitors very close to this pin.", 9 ISET (in) "The current output programming pin. The resistor connected to the pin programs the regulated current of the Iout pin.", 10 IFB (in) "The return path for the Iout regulation. The current regulator is connected to this pin, and it can be disabled by opening the current path.", 11 TP (power) "The thermal pad should be soldered to the analog ground. If possible, use thermal via to connect to ground plane for ideal power dissipation."

## TPS61140DRCRG4
designator U?
Boost Voltage Converter with 3 to 6 V Input and 2.5 to 27 V Output, -40 to 85 degC, 10-Pin SON (DRC), Green (RoHS & no Sb/Br); Manufacturer: Texas Instruments; PartNumber: TPS61140DRCRG4; Regulated Outputs(#): 2; SubFamily: Step-Up Regulator; Switching Frequency(Max)(kHz): 1200; Synchronous Rectification: TRUE; Vin(Max)(V): 6; Vin(Min)(V): 3; Vout(Max)(V): 27; Vout(Min)(V): 2.5; DatasheetVersion: SLVS624B; PackageVersion: revL, Sep-2011; PackageReference: DRC10-2400X1650TP; PackageDescription: 10-Pin Plastic Small Outline No-Lead, 3 x 3 x 1 mm Body, 0.5 mm Pitch, Exposed Pad; Supplier 1: Digi-Key; Supplier Part Number 1: TPS61140DRCRG4-ND; Supplier 2: Newark; Supplier Part Number 2: 81K4155; Supplier 3: Mouser; Supplier Part Number 3: 595-TPS61140DRCRG4; Eco-Plan: Green (RoHS & no Sb/Br); Topology: Boost; Mounting Technology: Surface Mount; ComponentLink1Description: Datasheet; ComponentLink1URL: http://www.ti.com/general/docs/lit/getliterature.tsp?genericPartNumber=TPS61140&fileType=pdf; ComponentLink2Description: Package Specification; ComponentLink2URL: http://www.ti.com/litv/pdf/mpds117k
footprint DRC10-2400X1650TP (SON, 10-Leads, Body 3x3mm, Pitch 0.5mm, Thermal Pad 2.4x1.65mm, TI Recommended)
pins: 1 VOUT (power) "The output of the voltage regulator. There is a low dropout linear regulator (LDO) between the Iout and Vout pins which regulates the Vout voltage. Turning off the LDO disconnects the Vout from Iout.", 2 VFB (in) "The voltage feedback pin for Vout regulation. It is regulated to an internal reference voltage. An external voltage divider connected to this pin programs the output voltage.", 3 SELV (in) "Mode selection pins. See Table 1 for details", 4 SELI (in) "Mode selection pins. See Table 1 for details", 5 VIN (power) "The input pin to the IC. It provides the current to the boost regulator output, and also powers the IC circuit. When the Vin voltage is below the undervoltage lockout threshold, the IC turns off and disables outputs.", 6 SW (power) "This is the switching node of the IC where the PWM switching Is created.", 7 IOUT (power) "The output of the constant current supply. It is directly connected to the boost regulator output", 8 GND (power) "The ground of the IC. Connect the input and output capacitors very close to this pin.", 9 ISET (in) "The current output programming pin. The resistor connected to the pin programs the regulated current of the Iout pin.", 10 IFB (in) "The return path for the Iout regulation. The current regulator is connected to this pin, and it can be disabled by opening the current path.", 11 TP (power) "The thermal pad should be soldered to the analog ground. If possible, use thermal via to connect to ground plane for ideal power dissipation."

## TPS61140DRCT
designator U?
Boost Voltage Converter with 3 to 6 V Input and 2.5 to 27 V Output, -40 to 85 degC, 10-Pin SON (DRC), Green (RoHS & no Sb/Br); Manufacturer: Texas Instruments; PartNumber: TPS61140DRCT; Regulated Outputs(#): 2; SubFamily: Step-Up Regulator; Switching Frequency(Max)(kHz): 1200; Synchronous Rectification: TRUE; Vin(Max)(V): 6; Vin(Min)(V): 3; Vout(Max)(V): 27; Vout(Min)(V): 2.5; DatasheetVersion: SLVS624B; PackageVersion: revL, Sep-2011; PackageReference: DRC10-2400X1650TP; PackageDescription: 10-Pin Plastic Small Outline No-Lead, 3 x 3 x 1 mm Body, 0.5 mm Pitch, Exposed Pad; Supplier 1: Digi-Key; Supplier Part Number 1: 296-24145-2-ND; Supplier 2: Digi-Key; Supplier Part Number 2: 296-24145-1-ND; Supplier 3: Digi-Key; Supplier Part Number 3: 296-24145-6-ND; Supplier 4: Newark; Supplier Part Number 4: 80K6168; Supplier 5: Newark; Supplier Part Number 5: 99R8635; Supplier 6: Mouser; Supplier Part Number 6: 595-TPS61140DRCT; Eco-Plan: Green (RoHS & no Sb/Br); Topology: Boost; Mounting Technology: Surface Mount; ComponentLink1Description: Datasheet; ComponentLink1URL: http://www.ti.com/general/docs/lit/getliterature.tsp?genericPartNumber=TPS61140&fileType=pdf; ComponentLink2Description: Package Specification; ComponentLink2URL: http://www.ti.com/litv/pdf/mpds117k
footprint DRC10-2400X1650TP (SON, 10-Leads, Body 3x3mm, Pitch 0.5mm, Thermal Pad 2.4x1.65mm, TI Recommended)
pins: 1 VOUT (power) "The output of the voltage regulator. There is a low dropout linear regulator (LDO) between the Iout and Vout pins which regulates the Vout voltage. Turning off the LDO disconnects the Vout from Iout.", 2 VFB (in) "The voltage feedback pin for Vout regulation. It is regulated to an internal reference voltage. An external voltage divider connected to this pin programs the output voltage.", 3 SELV (in) "Mode selection pins. See Table 1 for details", 4 SELI (in) "Mode selection pins. See Table 1 for details", 5 VIN (power) "The input pin to the IC. It provides the current to the boost regulator output, and also powers the IC circuit. When the Vin voltage is below the undervoltage lockout threshold, the IC turns off and disables outputs.", 6 SW (power) "This is the switching node of the IC where the PWM switching Is created.", 7 IOUT (power) "The output of the constant current supply. It is directly connected to the boost regulator output", 8 GND (power) "The ground of the IC. Connect the input and output capacitors very close to this pin.", 9 ISET (in) "The current output programming pin. The resistor connected to the pin programs the regulated current of the Iout pin.", 10 IFB (in) "The return path for the Iout regulation. The current regulator is connected to this pin, and it can be disabled by opening the current path.", 11 TP (power) "The thermal pad should be soldered to the analog ground. If possible, use thermal via to connect to ground plane for ideal power dissipation."

## TPS61140DRCTG4
designator U?
Boost Voltage Converter with 3 to 6 V Input and 2.5 to 27 V Output, -40 to 85 degC, 10-Pin SON (DRC), Green (RoHS & no Sb/Br); Manufacturer: Texas Instruments; PartNumber: TPS61140DRCTG4; Regulated Outputs(#): 2; SubFamily: Step-Up Regulator; Switching Frequency(Max)(kHz): 1200; Synchronous Rectification: TRUE; Vin(Max)(V): 6; Vin(Min)(V): 3; Vout(Max)(V): 27; Vout(Min)(V): 2.5; DatasheetVersion: SLVS624B; PackageVersion: revL, Sep-2011; PackageReference: DRC10-2400X1650TP; PackageDescription: 10-Pin Plastic Small Outline No-Lead, 3 x 3 x 1 mm Body, 0.5 mm Pitch, Exposed Pad; Supplier 1: Digi-Key; Supplier Part Number 1: TPS61140DRCTG4-ND; Supplier 2: Newark; Supplier Part Number 2: 81K4156; Supplier 3: Mouser; Supplier Part Number 3: 595-TPS61140DRCTG4; Eco-Plan: Green (RoHS & no Sb/Br); Topology: Boost; Mounting Technology: Surface Mount; ComponentLink1Description: Datasheet; ComponentLink1URL: http://www.ti.com/general/docs/lit/getliterature.tsp?genericPartNumber=TPS61140&fileType=pdf; ComponentLink2Description: Package Specification; ComponentLink2URL: http://www.ti.com/litv/pdf/mpds117k
footprint DRC10-2400X1650TP (SON, 10-Leads, Body 3x3mm, Pitch 0.5mm, Thermal Pad 2.4x1.65mm, TI Recommended)
pins: 1 VOUT (power) "The output of the voltage regulator. There is a low dropout linear regulator (LDO) between the Iout and Vout pins which regulates the Vout voltage. Turning off the LDO disconnects the Vout from Iout.", 2 VFB (in) "The voltage feedback pin for Vout regulation. It is regulated to an internal reference voltage. An external voltage divider connected to this pin programs the output voltage.", 3 SELV (in) "Mode selection pins. See Table 1 for details", 4 SELI (in) "Mode selection pins. See Table 1 for details", 5 VIN (power) "The input pin to the IC. It provides the current to the boost regulator output, and also powers the IC circuit. When the Vin voltage is below the undervoltage lockout threshold, the IC turns off and disables outputs.", 6 SW (power) "This is the switching node of the IC where the PWM switching Is created.", 7 IOUT (power) "The output of the constant current supply. It is directly connected to the boost regulator output", 8 GND (power) "The ground of the IC. Connect the input and output capacitors very close to this pin.", 9 ISET (in) "The current output programming pin. The resistor connected to the pin programs the regulated current of the Iout pin.", 10 IFB (in) "The return path for the Iout regulation. The current regulator is connected to this pin, and it can be disabled by opening the current path.", 11 TP (power) "The thermal pad should be soldered to the analog ground. If possible, use thermal via to connect to ground plane for ideal power dissipation."

## TPS61141DRCR
designator U?
Boost Voltage Converter with 3 to 6 V Input and 2.5 to 27 V Output, -40 to 85 degC, 10-Pin SON (DRC), Green (RoHS & no Sb/Br); Manufacturer: Texas Instruments; PartNumber: TPS61141DRCR; Regulated Outputs(#): 2; SubFamily: Step-Up Regulator; Switching Frequency(Max)(kHz): 1200; Synchronous Rectification: TRUE; Vin(Max)(V): 6; Vin(Min)(V): 3; Vout(Max)(V): 27; Vout(Min)(V): 2.5; DatasheetVersion: SLVS624B; PackageVersion: revL, Sep-2011; PackageReference: DRC10-2400X1650TP; PackageDescription: 10-Pin Plastic Small Outline No-Lead, 3 x 3 x 1 mm Body, 0.5 mm Pitch, Exposed Pad; Supplier 1: Digi-Key; Supplier Part Number 1: 296-21160-2-ND; Supplier 2: Digi-Key; Supplier Part Number 2: 296-21160-1-ND; Supplier 3: Digi-Key; Supplier Part Number 3: 296-21160-6-ND; Supplier 4: Newark; Supplier Part Number 4: 80K3413; Supplier 5: Mouser; Supplier Part Number 5: 595-TPS61141DRCR; Eco-Plan: Green (RoHS & no Sb/Br); Topology: Boost; Mounting Technology: Surface Mount; ComponentLink1Description: Datasheet; ComponentLink1URL: http://www.ti.com/general/docs/lit/getliterature.tsp?genericPartNumber=TPS61141&fileType=pdf; ComponentLink2Description: Package Specification; ComponentLink2URL: http://www.ti.com/litv/pdf/mpds117k
footprint DRC10-2400X1650TP (SON, 10-Leads, Body 3x3mm, Pitch 0.5mm, Thermal Pad 2.4x1.65mm, TI Recommended)
pins: 1 VOUT (power) "The output of the voltage regulator. There is a low dropout linear regulator (LDO) between the Iout and Vout pins which regulates the Vout voltage. Turning off the LDO disconnects the Vout from Iout.", 2 VFB (in) "The voltage feedback pin for Vout regulation. It is regulated to an internal reference voltage. An external voltage divider connected to this pin programs the output voltage.", 3 SELV (in) "Mode selection pins.", 4 SELI (in) "Mode selection pins.", 5 VIN (power) "The input pin to the IC. It provides the current to the boost regulator output, and also powers the IC circuit. When the Vin voltage is below the undervoltage lockout threshold, the IC turns off and disables outputs.", 6 SW (power) "This is the switching node of the IC where the PWM switching Is created.", 7 IOUT (power) "The output of the constant current supply. It is directly connected to the boost regulator output.", 8 GND (power) "The ground of the IC. Connect the input and output capacitors very close to this pin.", 9 ISET (in) "The current output programming pin. The resistor connected to the pin programs the regulated current of the Iout pin.", 10 IFB (in) "The return path for the Iout regulation. The current regulator is connected to this pin, and it can be disabled by opening the current path.", 11 TP (power) "The thermal pad should be soldered to the analog ground. If possible, use thermal via to connect to ground plane for ideal power dissipation."